# EAGLE library part LTC6090* (library MDB_HOME)
The LTC®6090/LTC6090-5 are high voltage, precision monolithic operational amplifiers. The LTC6090 is unity gain stable. The LTC6090-5 is stable in noise gain configurations of 5 or greater. Both amplifiers feature high open loop gain, low input referred offset voltage and noise, and pA input bias current and are ideal for high voltage, high impedance buffering and/or high gain configurations.
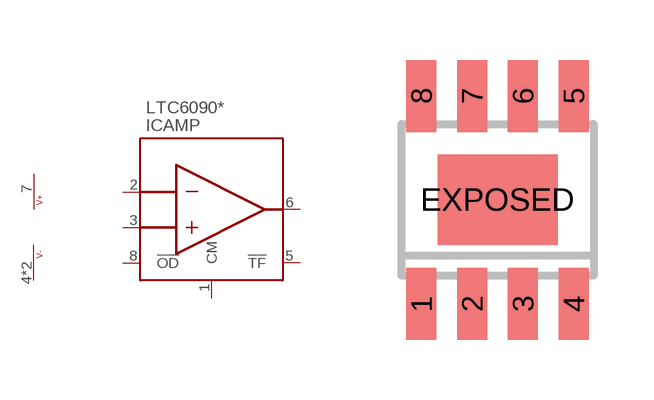
[diagram p34: symbol with the pads of SO08_EXT; footprint SO08_EXT]

Designator prefix IC; gates AMP=LTC6090 G$2=PWR+-

## LTC6090S8E  [SO08_EXT]
1  AMP:CM
2  AMP:IN-
3  AMP:IN+
4  G$2:V-  pwr
5  AMP:!TF
6  AMP:OUT
7  G$2:V+  pwr
8  AMP:!OD
EXPOSED  G$2:V-  pwr

## Footprint SO08_EXT (pad centres in mm)
smd 0.75 x 1.8: 1 -1.905,-2.6; 2 -0.635,-2.6; 3 0.635,-2.6; 4 1.905,-2.6; 5 1.905,2.6; 6 0.635,2.6; 7 -0.635,2.6; 8 -1.905,2.6
smd 3 x 2.26: EXPOSED 0,0